# EAGLE library part L6983 (library Sedna Components)
The L6983 is a configurable DC-DC step-down regulator, bringing 3.5-38V down to 0.85-Vin. It supports up to 3A of output current, and comes in a QFN16 package. https://my.st.com/resource/en/datasheet/l6983.pdf
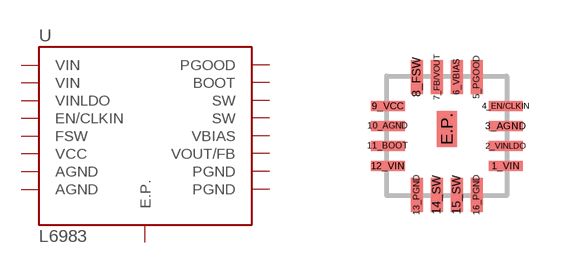
[diagram p0: symbol with the pads of L6983; footprint L6983]

Designator prefix U

## L6983  [L6983]
1_VIN  VIN  pwr
2_VINLDO  VINLDO  pwr
3_AGND  AGND  pwr
4_EN/CLKIN  EN/CLKIN  in
5_PGOOD  PGOOD  out
6_VBIAS  VBIAS  in
7_FB/VOUT  VOUT/FB  in
8_FSW  FSW  out
9_VCC  VCC  pwr
10_AGND  AGND  pwr
11_BOOT  BOOT  pwr
12_VIN  VIN  pwr
13_PGND  PGND  pwr
14_SW  SW  pwr
15_SW  SW  pwr
16_PGND  PGND  pwr
E.P.  E.P.  pwr

## Footprint L6983 (pad centres in mm)
Recommended footprint for the L6983 DC/DC step-down converter: https://my.st.com/resource/en/datasheet/l6983.pdf
smd 0.85 x 0.25: 1_VIN 1.475,-0.75; 2_VINLDO 1.475,-0.25; 3_AGND 1.475,0.25; 4_EN/CLKIN 1.475,0.75; 9_VCC -1.475,0.75; 10_AGND -1.475,0.25; 11_BOOT -1.475,-0.25; 12_VIN -1.475,-0.75
smd 0.3 x 0.85: 5_PGOOD 0.75,1.475; 6_VBIAS 0.25,1.475; 7_FB/VOUT -0.25,1.475; 8_FSW -0.75,1.475; 13_PGND -0.75,-1.475; 14_SW -0.25,-1.475; 15_SW 0.25,-1.475; 16_PGND 0.75,-1.475
smd 0.5 x 0.9: E.P. 0,0.17